# Altium footprint library back.PcbLib: 2 footprints
Each footprint in its own frame and in the unit in brackets; x right, y up, seen from the top. Pads: shape width x height; smd on the part's side, far side on the other; paste and mask are expansions set on the pad; w line width, h text height; cw(c..) or ccw(c..) is an arc to the next point about the centre after c.
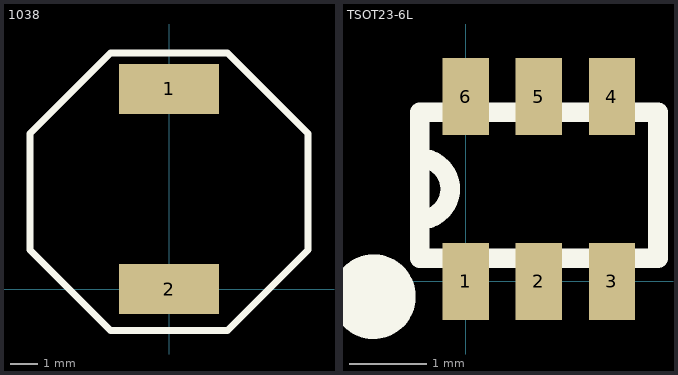
[diagram p0: the footprints below, top view; thin cyan lines are the x and y axes]

## 1038 [mm]
pads (2):
  rect 3.6x1.8 smd: 1(0,7.2) 2(0,0)
Top Overlay:
  lines w0.254: -5,1.4 -2.1,-1.5 2,-1.5 2.1,-1.5 5,1.4 5,5.6 2.1,8.5 2,8.5 -2.1,8.5 -5,5.6 -5,1.4

## TSOT23-6L [mm]
pads (6):
  rect 0.6x1 smd: 1(0,0) 2(0.95,0) 3(1.9,0) 4(1.9,2.4) 5(0.95,2.4) 6(0,2.4)
Top Overlay:
  circle w0.7: c-1.2,-0.2 r0.2
  lines w0.254: -0.6,0.8 ccw(c-0.6,1.2) -0.6,1.6 ; -0.6,0.3 2.4,0.3 2.5,0.3 2.5,2.2 -0.6,2.2 -0.6,0.3
3D body: height 1, standoff 0, extent -0.6,0.2 2.6,2.2